# Altium footprint library PcbLib.PcbLib: 5 footprints
Each footprint in its own frame and in the unit in brackets; x right, y up, seen from the top. Pads: shape width x height; smd on the part's side, far side on the other; paste and mask are expansions set on the pad; w line width, h text height; cw(c..) or ccw(c..) is an arc to the next point about the centre after c.
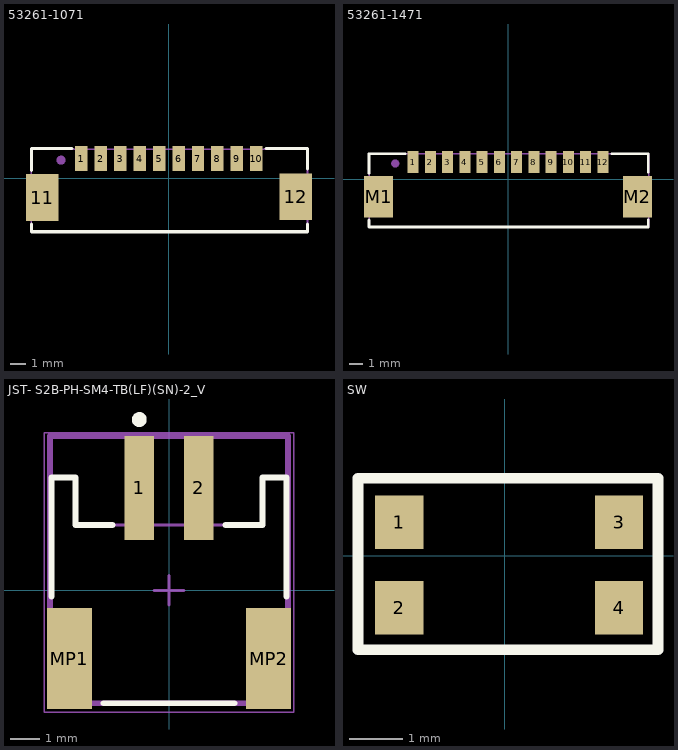
[diagram p0: the footprints below, top view; thin cyan lines are the x and y axes]

## 53261-1071 [mm]
pads (12):
  rect 0.8x1.6 smd: 1(-5.637,1.25) 2(-4.387,1.25) 3(-3.137,1.25) 4(-1.887,1.25) 5(-0.637,1.25) 6(0.613,1.25) 7(1.863,1.25) 8(3.113,1.25) 9(4.363,1.25) 10(5.613,1.25)
  rect 2.1x3 smd: 11(-8.137,-1.25) 12(8.138,-1.2)
Top Overlay:
  lines w0.2: -8.837,-2.95 -8.837,-3.45 8.9,-3.45 8.9,-2.95 ; -8.837,0.5 -8.837,1.9 -6.237,1.9 ; 6.25,1.9 8.9,1.9 8.9,0.575
Mechanical 29:
  circle w0.3: c-6.937,1.15 r0.141
  lines w0.1: -8.837,-3.45 8.9,-3.45 8.9,1.85 -8.837,1.85 -8.837,-3.45
  text "'.Designator'" at -2.5,-1.7 h0.6
3D body "532611071.stp": height 3.41, standoff 0.01, extent -8.825,-3.375 8.825,1.825
3D body: height 1.6, standoff -1.8, extent -8.162,1.1 -8.162,1.1

## 53261-1471 [mm]
pads (14):
  rect 0.8x1.6 smd: 1(-6.875,1.25) 2(-5.625,1.25) 3(-4.375,1.25) 4(-3.125,1.25) 5(-1.875,1.25) 6(-0.625,1.25) 7(0.625,1.25) 8(1.875,1.25) 9(3.125,1.25) 10(4.375,1.25) 11(5.625,1.25) 12(6.875,1.25)
  rect 2.1x3 smd: M1(-9.375,-1.25) M2(9.375,-1.25)
Top Overlay:
  lines w0.2: -10.075,-2.95 -10.075,-3.45 10.175,-3.45 10.175,-2.95 ; -10.075,0.45 -10.075,1.85 -7.475,1.85 ; 7.525,1.85 10.175,1.85 10.175,0.525
Mechanical 29:
  circle w0.3: c-8.175,1.15 r0.141
  lines w0.1: -10.075,-3.45 10.2,-3.45 10.2,1.85 -10.075,1.85 -10.075,-3.45
  text "'.Designator'" at -0.75,-1.525 h0.6
3D body "532611271.stp": height 3.41, standoff 0.01, extent -10.075,-3.5 10.075,1.7
3D body: height 1.6, standoff -1.8, extent -9.4,1.1 -9.4,1.1

## JST- S2B-PH-SM4-TB(LF)(SN)-2_V [mm] "SMD, 2-Leads, Body 7.9x7.6mm, Pitch 2mm"
height 5.5
pads (4):
  rect 1x3.5 smd: 1(-1,3.45) 2(1,3.45)
  rect 1.5x3.4 smd: MP1(-3.35,-2.3) MP2(3.35,-2.3)
Top Overlay:
  circle w0.25: c-1,5.75 r0.125
  lines w0.2: -3.95,-0.2 -3.95,3.8 -3.15,3.8 -3.15,2.2 -1.9,2.2 ; -2.2,-3.8 2.2,-3.8 ; 1.9,2.2 3.15,2.2 3.15,3.8 3.95,3.8 3.95,-0.2
Mechanical 13:
  lines w0.1: -3.95,-3 -3.95,3.8 -3.15,3.8 -3.15,2.2 3.15,2.2 3.15,3.8 3.95,3.8 3.95,-3 3.45,-3 3.45,-3.8 -3.45,-3.8 -3.45,-3 -3.95,-3
Mechanical 15:
  lines w0.05: -4.2,-4.1 4.2,-4.1 4.2,5.3 -4.2,5.3 -4.2,-4.1
  lines w0.1: -0.5,0 0.5,0 ; 0,-0.5 0,0.5
Mechanical 29:
  lines w0.2: -4,-3.8 4,-3.8 4,5.2 -4,5.2 -4,-3.8
  text "'.Designator'" at -2.65,-0.225 h0.6
3D body "S2B-PH-SM4-TB.STEP": height 5.6, standoff 0, extent -3.95,-3.8 3.95,4.8

## PCBComponent_1 [mm]

## SW [mm]
pads (4):
  rect 0.9x1 smd: 1(-1.968,0.63) 2(-1.968,-0.97) 3(2.132,0.63) 4(2.132,-0.97)
Top Overlay:
  lines w0.2: -2.74,-1.75 -2.74,1.45 2.86,1.45 2.86,-1.75 -2.74,-1.75
Mechanical 29:
  lines w0.1: -2.74,-1.75 -2.74,1.45 2.86,1.45 2.86,-1.75 -2.74,-1.75
  text "'.Designator'" at -1.4,-0.5 h1
3D body "User Library-Switch-CK-KMR2.STEP": height 2.1, standoff 0, extent -2.22,-1.66 2.38,1.34